# EAGLE library part CC3000 (library SmartNodeLib)
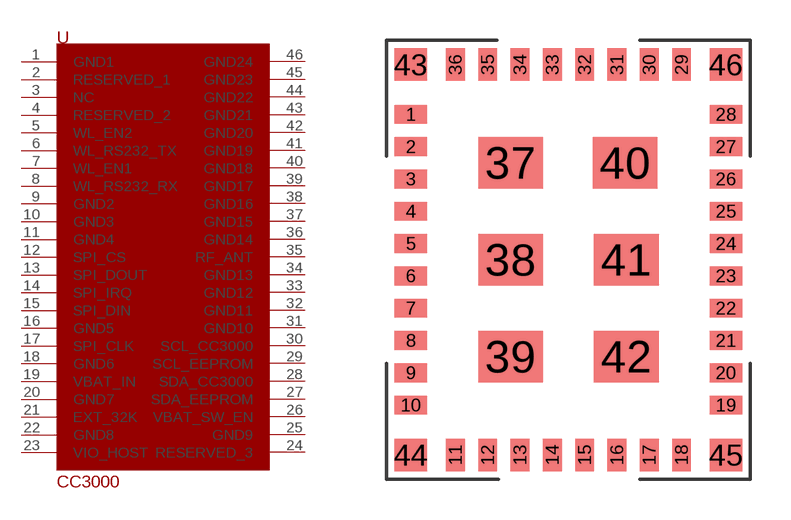
[diagram p1: symbol with the pads of CC3000; footprint CC3000]

Designator prefix U

## CC3000  [CC3000]
1  GND1  pwr
2  RESERVED_1
3  NC  nc
4  RESERVED_2
5  WL_EN2  in
6  WL_RS232_TX  out
7  WL_EN1  in
8  WL_RS232_RX  in
9  GND2  pwr
10  GND3  pwr
11  GND4
12  SPI_CS  in
13  SPI_DOUT  out
14  SPI_IRQ  out
15  SPI_DIN  in
16  GND5  pwr
17  SPI_CLK  in
18  GND6  pwr
19  VBAT_IN  pwr
20  GND7  pwr
21  EXT_32K  pwr
22  GND8  pwr
23  VIO_HOST  pwr
24  RESERVED_3  out
25  GND9  pwr
26  VBAT_SW_EN  in
27  SDA_EEPROM
28  SDA_CC3000
29  SCL_EEPROM
30  SCL_CC3000
31  GND10
32  GND11
33  GND12
34  GND13
35  RF_ANT
36  GND14  pwr
37  GND15  pwr
38  GND16  pwr
39  GND17  pwr
40  GND18  pwr
41  GND19  pwr
42  GND20  pwr
43  GND21  pwr
44  GND22  pwr
45  GND23  pwr
46  GND24  pwr

## Footprint CC3000 (pad centres in mm)
smd 1.2 x 0.7: 1 -5.85,5.4; 2 -5.85,4.2; 3 -5.85,3; 4 -5.85,1.8; 5 -5.85,0.6; 6 -5.85,-0.6; 7 -5.85,-1.8; 8 -5.85,-3; 9 -5.85,-4.2; 10 -5.85,-5.4; 19 5.85,-5.4; 20 5.85,-4.2; 21 5.85,-3; 22 5.85,-1.8; 23 5.85,-0.6; 24 5.85,0.6; 25 5.85,1.8; 26 5.85,3; 27 5.85,4.2; 28 5.85,5.4
smd 0.7 x 1.2: 11 -4.2,-7.25; 12 -3,-7.25; 13 -1.8,-7.25; 14 -0.6,-7.25; 15 0.6,-7.25; 16 1.8,-7.25; 17 3,-7.25; 18 4.2,-7.25; 29 4.2,7.25; 30 3,7.25; 31 1.8,7.25; 32 0.6,7.25; 33 -0.6,7.25; 34 -1.8,7.25; 35 -3,7.25; 36 -4.2,7.25
smd 2.4 x 1.9: 37 -2.15,3.6; 38 -2.15,0; 39 -2.15,-3.6; 40 2.1,3.6; 41 2.15,0; 42 2.15,-3.6
smd 1.2 x 1.2: 43 -5.85,7.25; 44 -5.85,-7.25; 45 5.85,-7.25; 46 5.85,7.25